# EAGLE library part SS2X2 (library divers)
Sliding switch 2*2
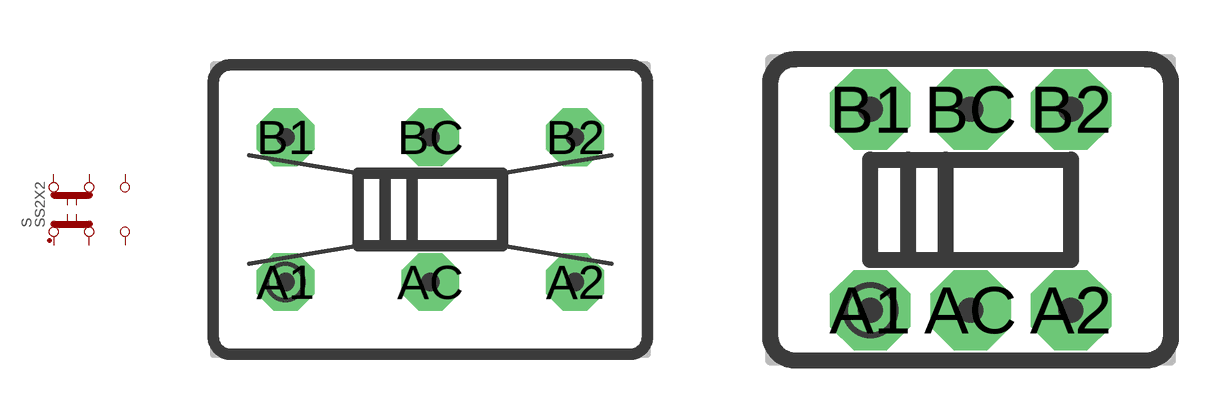
[diagram p18: symbol with the pads of SS2X2A; footprints SS2X2A, SS2X2B]

Designator prefix S

## SS2X2  [SS2X2A]
A1  SO1A
A2  SO2A
AC  SIA
B1  SO1B
B2  SO2B
BC  SIB

## SS2X2B  [SS2X2B]
Pads as for SS2X2A

## SS2X2A  [SS2X2A]
Pads as for SS2X2A

## SS2X2BL  [SS2X2BL]
Pads as for SS2X2A

## Footprint SS2X2A (pad centres in mm)
Sliding switch 2*2 0.2" grid (15*10mm)
drill 0.813 pad 2.032 octagon: A1 -5.08,-2.54; A2 5.08,-2.54; AC 0,-2.54; B1 -5.08,2.54; B2 5.08,2.54; BC 0,2.54

## Footprint SS2X2B (pad centres in mm)
Sliding switch 2*2 0.1" grid (10*7.5mm) - Reichelt T681
drill 0.813 pad 2.032 octagon: A1 -2.54,-2.54; A2 2.54,-2.54; AC 0,-2.54; B1 -2.54,2.54; B2 2.54,2.54; BC 0,2.54

## Footprint SS2X2BL (pad centres in mm)
Sliding switch 2*2, long pads 0.1" grid (10*7.5mm) - Reichelt T681
drill 0.813 pad 1.397 long: A1 -2.54,-2.54; A2 2.54,-2.54; AC 0,-2.54; B1 -2.54,2.54; B2 2.54,2.54; BC 0,2.54